# Altium footprint library SparkFun-Connectors.PCBLIB: 344 footprints (part 19 of 22)
Each footprint in its own frame and in the unit in brackets; x right, y up, seen from the top. Pads: shape width x height; smd on the part's side, far side on the other; paste and mask are expansions set on the pad; w line width, h text height; cw(c..) or ccw(c..) is an arc to the next point about the centre after c.
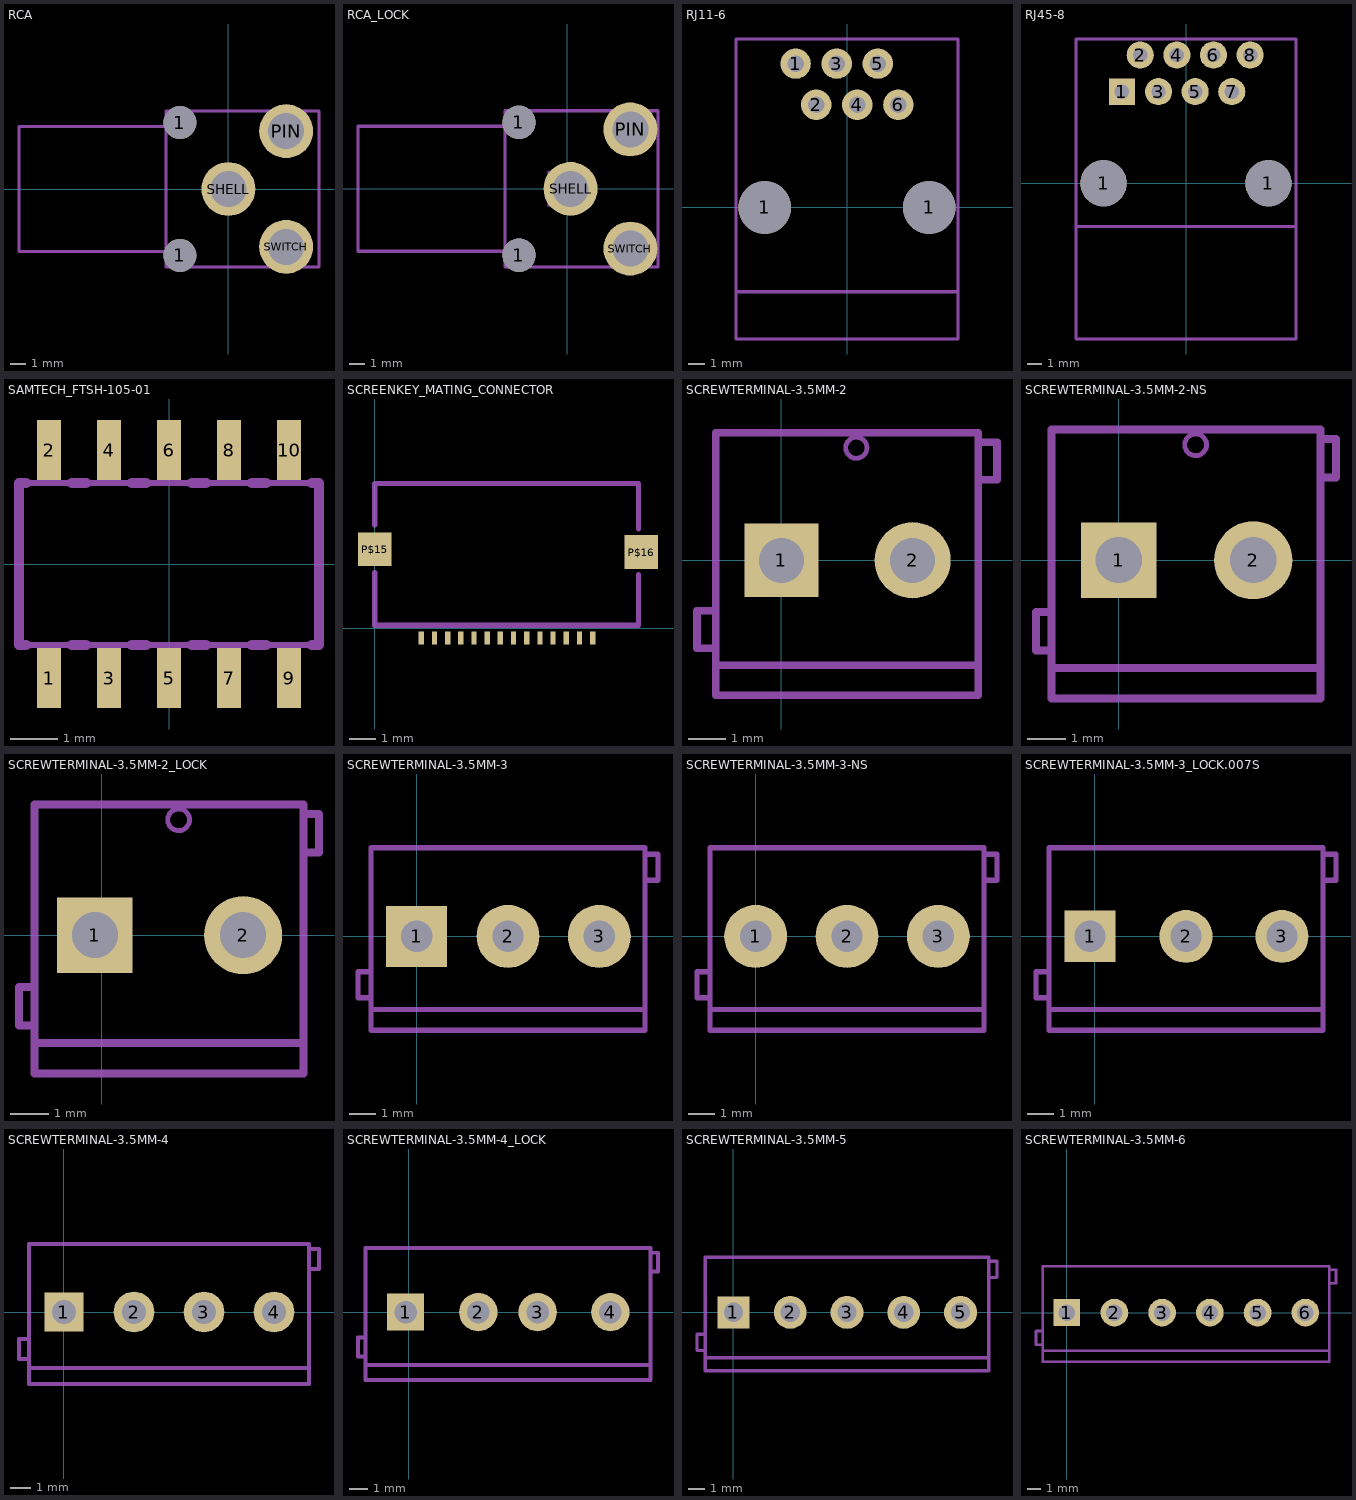
[diagram p18: the footprints below, top view; thin cyan lines are the x and y axes]

## RCA [mm]
pads (5):
  round 2.1 hole 2.1 unplated: 1(-3.1,-4.25) 1(-3.1,4.25)
  round 3.45 / inner round 1.524 / far side round 3.45 hole 2.3: PIN(3.7,3.7) SHELL(0,0) SWITCH(3.7,-3.7)
Mechanical 8:
  lines w0.203: -4,-4 -13.4,-4 -13.4,4 -4,4 ; -4,-5 -4,5 5.8,5 5.8,-5 -4,-5
Mechanical 22:
  lines w0.203: -4,-3 -4,3 ; -2,-5 2,-5 ; -2,5 2,5 ; 5.8,-5 5.8,5

## RCA_LOCK [mil]
pads (5):
  round 84 hole 84 unplated: 1(-122.05,-167.32) 1(-122.05,167.32)
  round 135.82 / inner round 60 / far side round 135.82 hole 90.55: PIN(158.67,149.67) SHELL(8,0) SWITCH(158.67,-150.67)
Mechanical 8:
  region: -152,137 -152,196 -93,196 -93,137
  region: -152,-198 -152,-139 -93,-139 -93,-198
  region: -49,-44 -49,44 10,44 10,-44
  region: 113,-153 113,-139 201,-139 201,-153
  region: 113,137 113,151 201,151 201,137
  lines w1: 113,-138 176,-138 ; 113,136 176,136
  lines w8: -157.48,-157.48 -527.56,-157.48 -527.56,157.48 -157.48,157.48 ; -157.48,-196.85 -157.48,196.85 228.35,196.85 228.35,-196.85 -157.48,-196.85
Mechanical 22:
  lines w8: -157.48,-118.11 -157.48,118.11 ; -78.74,-196.85 78.74,-196.85 ; -78.74,196.85 78.74,196.85 ; 228.35,-196.85 228.35,196.85

## RJ11-6 [mil]
pads (8):
  round 128 hole 128 unplated: 1(-200,0) 1(200,0)
  round 74 / inner round 60 / far side round 74 hole 40: 1(-125,350) 2(-75,250) 3(-25,350) 4(25,250) 5(75,350) 6(125,250)
Mechanical 8:
  lines w8: -270,-205 -270,-320 270,-320 270,-205
Mechanical 22:
  lines w8: -270,-205 -270,410 270,410 270,-205 -270,-205

## RJ45-8 [mil]
pads (10):
  round 125.98 hole 125.98 unplated: 1(-225,0) 1(225,0)
  rect 71.65x71.65 / inner rect 60x60 / far side rect 71.65x71.65 hole 39.37: 1(-175,250)
  round 74 / inner round 60 / far side round 74 hole 39.37: 2(-125,350) 3(-75,250) 4(-25,350) 5(25,250) 6(75,350) 7(125,250) 8(175,350)
Mechanical 8:
  lines w8: -300,-118.11 -300,-425.2 300,-425.2 300,-118.11
Mechanical 22:
  lines w8: -300,-118.11 -300,393.7 300,393.7 300,-118.11 -300,-118.11

## SAMTECH_FTSH-105-01 [mil]
pads (10):
  rect 20x50 smd: 1(-100,-95) 2(-100,95) 3(-50,-95) 4(-50,95) 5(0,-95) 6(0,95) 7(50,-95) 8(50,95) 9(100,-95) 10(100,95)
Mechanical 8:
  region: -8,67.5 -8,115 8,115 8,67.5
  region: 42,67.5 42,115 58,115 58,67.5
  region: 92,67.5 92,115 108,115 108,67.5
  region: -58,67.5 -58,115 -42,115 -42,67.5
  region: -108,67.5 -108,115 -92,115 -92,67.5
  region: 8,-67.5 8,-115 -8,-115 -8,-67.5
  region: -42,-67.5 -42,-115 -58,-115 -58,-67.5
  region: -92,-67.5 -92,-115 -108,-115 -108,-67.5
  region: 58,-67.5 58,-115 42,-115 42,-67.5
  region: 108,-67.5 108,-115 92,-115 92,-67.5
  lines w5: -125,-67.5 125,-67.5 125,67.5 -125,67.5 -125,-67.5
Mechanical 22:
  lines w8: -119,-67.5 -125,-67.5 -125,67.5 -119,67.5 ; -81,-67.5 -69,-67.5 ; -81,67.5 -69,67.5 ; -31,-67.5 -19,-67.5 ; -31,67.5 -19,67.5 ; 19,-67.5 31,-67.5 ; 19,67.5 31,67.5 ; 69,-67.5 81,-67.5 ; 69,67.5 81,67.5 ; 119,-67.5 125,-67.5 125,67.5 119,67.5

## SCREENKEY_MATING_CONNECTOR [mm]
pads (16):
  rect 0.2x0.5 smd: 1(1.76,-0.36) 2(2.26,-0.36) 3(2.76,-0.36) 4(3.26,-0.36) 5(3.76,-0.36) 6(4.26,-0.36) 7(4.76,-0.36) 8(5.26,-0.36) 9(5.76,-0.36) 10(6.26,-0.36) 11(6.76,-0.36) 12(7.26,-0.36) 13(7.76,-0.36) 14(8.26,-0.36)
  rect 1.28x1.28 smd: P$15(0,3) P$16(10.1,2.9)
Mechanical 22:
  lines w0.203: 0,2.108 0,0.127 10,0.127 10,2.032 ; 0,3.937 0,5.486 ; 0,5.5 10,5.5 10,3.785

## SCREWTERMINAL-3.5MM-2 [mil]
pads (2):
  rect 77.46x77.46 / inner rect 60x60 / far side rect 77.46x77.46 hole 47.24: 1(0,0)
  round 80 / inner round 60 / far side round 80 hole 47.24: 2(137.8,0)
Mechanical 8:
  circle w5: c78.74,118.11 r11.13
  lines w8: -68.9,-92.52 -88.58,-92.52 -88.58,-53.15 -68.9,-53.15 ; 206.69,84.65 226.38,84.65 226.38,124.02 206.69,124.02
Mechanical 22:
  lines w8: -68.9,-110.24 -68.9,-141.73 206.69,-141.73 206.69,-110.24 ; -68.9,-110.24 -68.9,133.86 206.69,133.86 206.69,-110.24 ; -68.9,-110.24 206.69,-110.24

## SCREWTERMINAL-3.5MM-2-NS [mil]
pads (2):
  rect 77.46x77.46 / inner rect 60x60 / far side rect 77.46x77.46 hole 47.24: 1(0,0)
  round 80 / inner round 60 / far side round 80 hole 47.24: 2(137.8,0)
Mechanical 8:
  circle w5: c78.74,118.11 r11.13
  lines w8: -68.9,-92.52 -84.65,-92.52 -84.65,-53.15 -68.9,-53.15 ; 206.69,84.65 222.44,84.65 222.44,124.02 206.69,124.02 ; -68.9,-110.24 -68.9,-141.73 206.69,-141.73 206.69,-110.24 ; -68.9,-110.24 -68.9,133.86 206.69,133.86 206.69,-110.24 ; -68.9,-110.24 206.69,-110.24

## SCREWTERMINAL-3.5MM-2_LOCK [mil]
pads (2):
  rect 77.46x77.46 / inner rect 60x60 / far side rect 77.46x77.46 hole 47.24: 1(-7,0)
  round 80 / inner round 60 / far side round 80 hole 47.24: 2(144.8,0)
Mechanical 8:
  circle w5: c78.74,118.11 r11.13
  circle w1: c0,0 r17
  circle w1: c137.8,0 r17
  lines w8: -68.9,-92.52 -84.65,-92.52 -84.65,-53.15 -68.9,-53.15 ; 206.69,84.65 222.44,84.65 222.44,124.02 206.69,124.02
Mechanical 22:
  lines w8: -68.9,-110.24 -68.9,-141.73 206.69,-141.73 206.69,-110.24 ; -68.9,-110.24 -68.9,133.86 206.69,133.86 206.69,-110.24 ; -68.9,-110.24 206.69,-110.24

## SCREWTERMINAL-3.5MM-3 [mil]
pads (3):
  rect 91.98x91.98 / inner rect 60x60 / far side rect 91.98x91.98 hole 47.24: 1(0,0)
  round 95 / inner round 60 / far side round 95 hole 47.24: 2(137.8,0) 3(275.59,0)
Mechanical 8:
  lines w8: -68.9,-92.52 -88.58,-92.52 -88.58,-53.15 -68.9,-53.15 ; 344.49,84.65 364.17,84.65 364.17,124.02 344.49,124.02
Mechanical 22:
  lines w8: -68.9,-110.24 -68.9,-141.73 344.49,-141.73 344.49,-110.24 ; -68.9,-110.24 -68.9,133.86 344.49,133.86 344.49,-110.24 ; -68.9,-110.24 344.49,-110.24

## SCREWTERMINAL-3.5MM-3-NS [mil]
pads (3):
  round 95 / inner round 60 / far side round 95 hole 47.24: 1(0,0) 2(137.8,0) 3(275.59,0)
Mechanical 8:
  lines w8: -68.9,-92.52 -88.58,-92.52 -88.58,-53.15 -68.9,-53.15 ; 344.49,84.65 364.17,84.65 364.17,124.02 344.49,124.02 ; -68.9,-110.24 -68.9,-141.73 344.49,-141.73 344.49,-110.24 ; -68.9,-110.24 -68.9,133.86 344.49,133.86 344.49,-110.24 ; -68.9,-110.24 344.49,-110.24

## SCREWTERMINAL-3.5MM-3_LOCK.007S [mil]
pads (3):
  rect 77.46x77.46 / inner rect 60x60 / far side rect 77.46x77.46 hole 47.24: 1(-7,0)
  round 80 / inner round 60 / far side round 80 hole 47.24: 2(137.8,0) 3(282.59,0)
Mechanical 8:
  circle w0.04: c0,0 r16.73
  circle w0.04: c137.8,0 r16.73
  circle w0.04: c275.59,0 r16.73
  lines w8: -68.9,-92.52 -88.58,-92.52 -88.58,-53.15 -68.9,-53.15 ; 344.49,84.65 364.17,84.65 364.17,124.02 344.49,124.02
Mechanical 22:
  lines w8: -68.9,-110.24 -68.9,-141.73 344.49,-141.73 344.49,-110.24 ; -68.9,-110.24 -68.9,133.86 344.49,133.86 344.49,-110.24 ; -68.9,-110.24 344.49,-110.24

## SCREWTERMINAL-3.5MM-4 [mil]
pads (4):
  rect 77.46x77.46 / inner rect 60x60 / far side rect 77.46x77.46 hole 47.24: 1(0,0)
  round 80 / inner round 60 / far side round 80 hole 47.24: 2(137.8,0) 3(275.59,0) 4(413.39,0)
Mechanical 8:
  circle w0.04: c0,0 r16.73
  circle w0.04: c137.8,0 r16.73
  circle w0.04: c275.59,0 r16.73
  circle w0.04: c413.39,0 r16.73
  lines w8: -68.9,-92.52 -88.58,-92.52 -88.58,-53.15 -68.9,-53.15 ; 482.28,84.65 501.97,84.65 501.97,124.02 482.28,124.02
Mechanical 22:
  lines w8: -68.9,-110.24 -68.9,-141.73 482.28,-141.73 482.28,-110.24 ; -68.9,-110.24 -68.9,133.86 482.28,133.86 482.28,-110.24 ; -68.9,-110.24 482.28,-110.24

## SCREWTERMINAL-3.5MM-4_LOCK [mil]
pads (4):
  rect 77.46x77.46 / inner rect 60x60 / far side rect 77.46x77.46 hole 47.24: 1(-7,0)
  round 80 / inner round 60 / far side round 80 hole 47.24: 2(144.8,0) 3(268.59,0) 4(420.39,0)
Mechanical 8:
  circle w0.04: c0,0 r16.73
  circle w0.04: c137.8,0 r16.73
  circle w0.04: c275.59,0 r16.73
  circle w0.04: c413.39,0 r16.73
  lines w8: -90.55,-92.52 -106.3,-92.52 -106.3,-53.15 -90.55,-53.15 ; 503.94,84.65 519.68,84.65 519.68,124.02 503.94,124.02
Mechanical 22:
  lines w8: -90.55,-110.24 -90.55,-141.73 503.94,-141.73 503.94,-110.24 ; -90.55,-110.24 -90.55,133.86 503.94,133.86 503.94,-110.24 ; -90.55,-110.24 503.94,-110.24

## SCREWTERMINAL-3.5MM-5 [mil]
pads (5):
  rect 77.46x77.46 / inner rect 60x60 / far side rect 77.46x77.46 hole 47.24: 1(0,0)
  round 80 / inner round 60 / far side round 80 hole 47.24: 2(137.8,0) 3(275.59,0) 4(413.39,0) 5(551.18,0)
Mechanical 8:
  lines w8: -68.9,-92.52 -88.58,-92.52 -88.58,-53.15 -68.9,-53.15 ; 620.08,84.65 639.76,84.65 639.76,124.02 620.08,124.02
Mechanical 22:
  lines w8: -68.9,-110.24 -68.9,-141.73 620.08,-141.73 620.08,-110.24 ; -68.9,-110.24 -68.9,133.86 620.08,133.86 620.08,-110.24 ; -68.9,-110.24 620.08,-110.24

## SCREWTERMINAL-3.5MM-6 [mil]
pads (6):
  rect 77.46x77.46 / inner rect 60x60 / far side rect 77.46x77.46 hole 47.24: 1(0,0)
  round 80 / inner round 60 / far side round 80 hole 47.24: 2(137.8,0) 3(275.59,0) 4(413.39,0) 5(551.18,0) 6(688.98,0)
Mechanical 8:
  lines w8: -68.9,-92.52 -88.58,-92.52 -88.58,-53.15 -68.9,-53.15 ; 757.87,84.65 777.56,84.65 777.56,124.02 757.87,124.02
Mechanical 22:
  lines w8: -68.9,-110.24 -68.9,-141.73 757.87,-141.73 757.87,-110.24 ; -68.9,-110.24 -68.9,133.86 757.87,133.86 757.87,-110.24 ; -68.9,-110.24 757.87,-110.24